# Altium schematic symbol library B-NT_Z.SchLib: 16 symbols
Pins are listed as number, name and electrical type; pins without a type are passive.

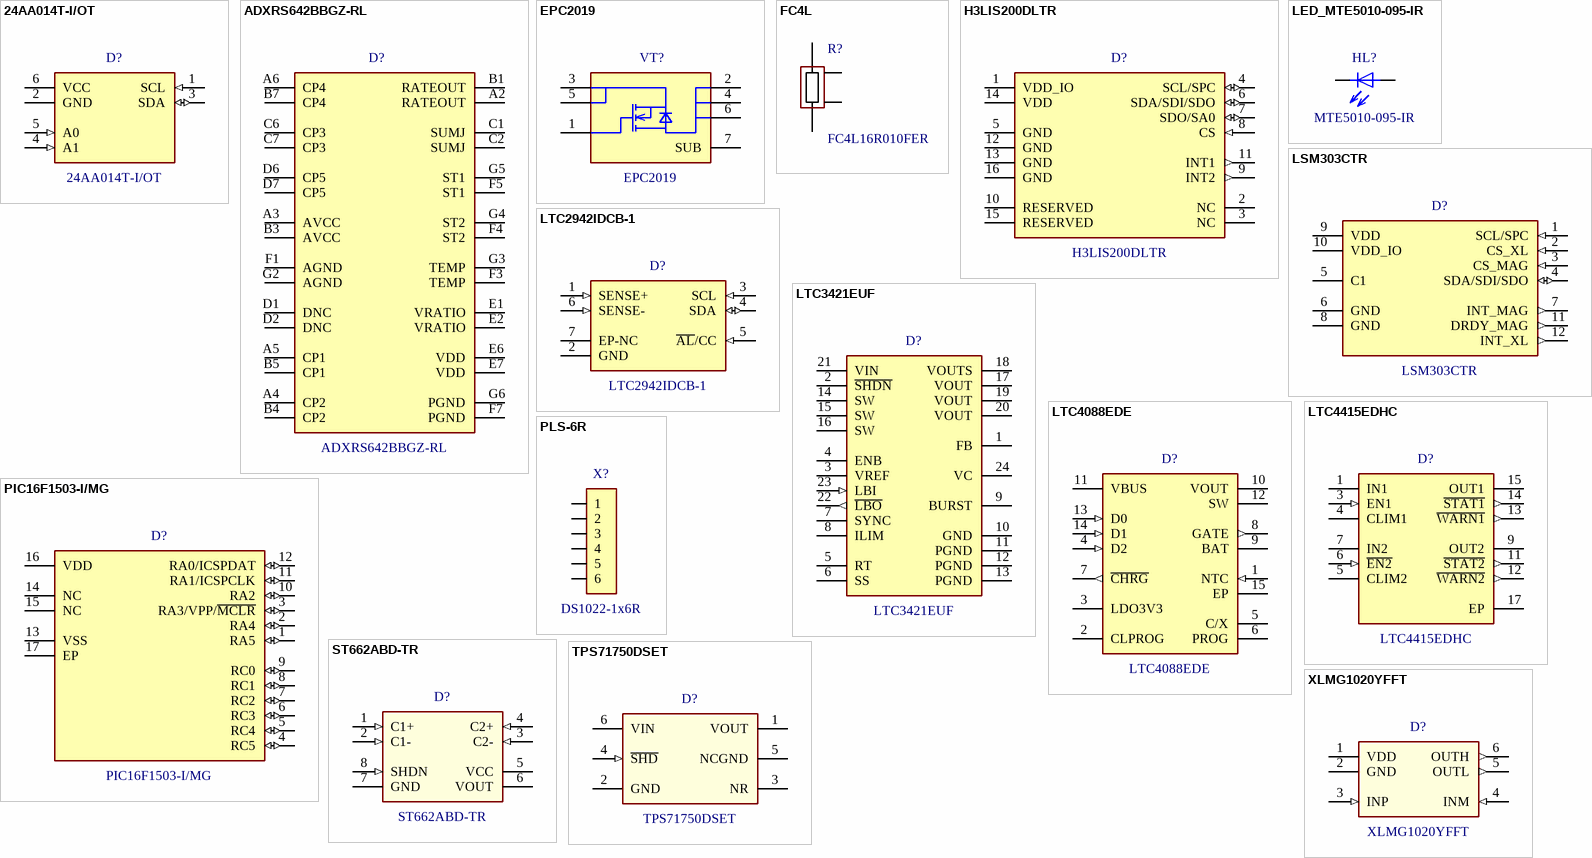
[diagram p0: symbols 24AA014T-I/OT to XLMG1020YFFT]

## 24AA014T-I/OT
designator D?  value 24AA014T-I/OT
EEPROM Memory IC 1Kb (128 x 8) I²C 400kHz 900ns SOT-23-6; ValueManufacturer: Microchip Technology; PowerVoltage: 1.7V~5.5V; ValueDescription: 24AA014T-I/OT EEPROM 1.7V~5.5V  SOT-23-6; Price: 0.25; Package: SOT-23-6; ValueManufacturerPartNumber: 24AA014T-I/OT; ValueType: EEPROM; Operating Temperature: -40°C~85°C; CheckDate: SC *; ComponentLink1Description: Microchip Datasheet; ComponentLink1URL: http://ww1.microchip.com/downloads/en/DeviceDoc/21809G.pdf
footprint SOT23-6-1.6X2.9-0.95 (SOT, 6-Leads, Body 2,9x1,6mm, Pitch 0,95mm)
pins: 1 SCL (in), 2 GND, 3 SDA (io), 4 A1 (in), 5 A0 (in), 6 VCC

## ADXRS642BBGZ-RL
designator D?  value ADXRS642BBGZ-RL
Gyroscope Z (Yaw) ±250 2kHz Analog Voltage 32-CBGA (7x7); ValueManufacturer: Analog Devices Inc; PowerVoltage: 4.75 V ~ 5.25 V; ValueDescription: ADXRS642BBGZ-RL Гироскоп 4.75 V ~ 5.25 V  32-BFCBGA; ValueType: Gyroscopes; Price: 74.75; ComponentLink1Description: Analog Devices Datasheet; ComponentLink1URL: http://www.analog.com/media/en/technical-documentation/data-sheets/ADXRS642.pdf; Package: 32-BFCBGA; ValueManufacturerPartNumber: ADXRS642BBGZ-RL; Operating Temperature: -40°C~105°C (TA); CheckDate: SC *
footprint BGA32_P8_7X7 (CBGA, 32-Leads, Body 7x7mmx3,8mm, Pitch 0,80mm)
pins: A2 RATEOUT "Rate Signal Output", A3 AVCC (power) "Positive Analog Supply", A4 CP2 "Charge Pump Capacitor, 22 nF (±5%)", A5 CP1 "Charge Pump Capacitor, 22 nF (±5%)", A6 CP4 "Charge Pump Capacitor, 22 nF (±5%)", B1 RATEOUT "Rate Signal Output", B3 AVCC (power) "Positive Analog Supply", B4 CP2 "Charge Pump Capacitor, 22 nF (±5%)", B5 CP1 "Charge Pump Capacitor, 22 nF (±5%)", B7 CP4 "Charge Pump Capacitor, 22 nF (±5%)", C1 SUMJ "Output Amp Summing Junction", C2 SUMJ, C6 CP3 "Charge Pump Capacitor, 22 nF (±5%)", C7 CP3 "Charge Pump Capacitor, 22 nF (±5%)", D1 DNC "Do Not Connect to this Pin", D2 DNC "Do Not Connect to this Pin", D6 CP5 "HV Filter Capacitor, 100nF (±5%)", D7 CP5 "HV Filter Capacitor, 100nF (±5%)", E1 VRATIO (power) "Reference Supply for Ratiometric Output", E2 VRATIO (power) "Reference Supply for Ratiometric Output", E6 VDD (power) "Positive Charge Pump Supply", E7 VDD (power) "Positive Charge Pump Supply", F1 AGND (power) "Analog Supply Return", F3 TEMP "Temperature Voltage Output", F4 ST2 "Self-Test for Sensor 2", F5 ST1 "Self-Test for Sensor 1", F7 PGND (power) "Charge Pump Supply Return", G2 AGND (power) "Analog Supply Return", G3 TEMP "Temperature Voltage Output", G4 ST2 "Self-Test for Sensor 2", G5 ST1 "Self-Test for Sensor 1", G6 PGND (power) "Charge Pump Supply Return"

## EPC2019
designator VT?  value EPC2019
TRANS GAN 200V 8.5A BUMPED DIE; ValueManufacturer: EPC; PowerVoltage: 200В 8.5A; ValueDescription: EPC2019 Транзистор полевой N-канальный 200В 8.5A  Die (2.77x0.95); ValueType: GaNFET Transistor; Price: 4.18; ComponentLink1Description: EPC Datasheet; ComponentLink1URL: http://epc-co.com/epc/Portals/0/epc/documents/datasheets/EPC2019_datasheet.pdf; Package: Die (2.77x0.95); ValueManufacturerPartNumber: EPC2019; Operating Temperature: -40°C~150°C; CheckDate: SC *
footprint DIE-EPC2019 (Die, 6-Leads, Body 2,77x0,95mmx0,82mm)
pins: 1 G "Gate", 2 S "Drain", 3 D "Source", 4 S "Drain", 5 D "Drain", 6 S "Drain", 7 SUB "Drain"

## FC4L
designator R?, comment FC4L16R010FER
SMD - Токовый датчик
footprint FC4L16 (SMD 0604 width)
pins: 1, 2, 3, 4

## H3LIS200DLTR
designator D?  value H3LIS200DLTR
ACCEL 100-200G I2C/SPI 16LGA; ValueManufacturer: STMicroelectronics; PowerVoltage: 2.16V~3.6V; ValueDescription: H3LIS200DLTR Акселерометр 2.16V~3.6V  16-VFLGA; ValueType: Accelerometer; Price: 6.88; Package: 16-VFLGA; ValueManufacturerPartNumber: H3LIS200DLTR; Operating Temperature: -40°C~85°C; CheckDate: SC *; ComponentLink1Description: STMicroelecrtonics Datasheet; ComponentLink1URL: https://www.st.com/content/ccc/resource/technical/document/datasheet/6c/e1/2a/9d/29/58/4e/25/DM00162194.pdf/files/DM00162194.pdf/jcr:content/translations/en.DM00162194.pdf
footprint VFLGA-16-3x3-0.5 (PQFN, 16-Leads, Body 3,00x3,00mm, Pitch 0,50mm, IPC Medium Density)
pins: 1 VDD_IO, 2 NC, 3 NC, 4 SCL/SPC (io), 5 GND, 6 SDA/SDI/SDO (io), 7 SDO/SA0 (io), 8 CS (in), 9 INT2 (out), 10 RESERVED, 11 INT1 (out), 12 GND, 13 GND, 14 VDD, 15 RESERVED, 16 GND

## LED_MTE5010-095-IR
designator HL?  value MTE5010-095-IR
SWIR EMITTER 1050NM TO-46 FLAT; ValueManufacturer: Marktech Optoelectronics; TechSpec: Инфракрасный; ValueDescription: MTE5010-095-IR Свтетодиод TO-46-2 Lens Top Metal Can    Инфракрасный; ValueType: TH SWIR Emitter; Price: 45.01; ComponentLink1Description: Marktech Optoelectronics Datasheet; ComponentLink1URL: http://www.marktechopto.com/pdf/products/datasheet/MTE5010-095-IR.pdf; Package: TO-46-2 Lens Top Metal Can; ValueManufacturerPartNumber: MTE5010-095-IR; Operating Temperature: -20°C~85°C; CheckDate: SC *
footprint MTE5010-095-IR
pins: 1 Cathode, 2 Anode
1 alternate drawing of the same symbol

## LSM303CTR
designator D?
IMU ACCEL/MAG I2C/SPI 12LGA; ValueManufacturer: STMicroelectronics; PowerVoltage: 1.9 V ~ 3.6 V; ValueDescription: LSM303CTR IMU 1.9 V ~ 3.6 V  12-LGA (2x2); CheckDate: SC *; Operating Temperature: -40°C~85°C; Package: 12-LGA (2x2); Price: 2.74; ValueManufacturerPartNumber: LSM303CTR; ValueType: IMU; ComponentLink1Description: STMicroelectronics Datasheet; ComponentLink1URL: https://www.st.com/content/ccc/resource/technical/document/datasheet/59/aa/fb/3b/85/9e/4e/0a/DM00089896.pdf/files/DM00089896.pdf/jcr:content/translations/en.DM00089896.pdf; Value: LSM303CTR
footprint LGA-12-2x2x1-0.5 (LGA, 12-Leads, Body 2,00x2,00mm, Pitch 0,50mm, IPC Medium Density)
pins: 1 SCL/SPC (in), 2 CS_XL (in), 3 CS_MAG (in), 4 SDA/SDI/SDO (io), 5 C1, 6 GND, 7 INT_MAG (out), 8 GND, 9 VDD, 10 VDD_IO, 11 DRDY_MAG (out), 12 INT_XL (out)

## LTC2942IDCB-1
designator D?
Battery Battery Monitor IC Lithium Ion 6-DFN (2x3); ValueManufacturer: Linear Technology/Analog Devices; ValueManufacturerPartNumber: LTC2942IDCB-1#TRMPBF; PowerVoltage: 2.7 V ~ 5.5 V; ValueDescription: LTC2942IDCB-1 Монитор батареи 2.7 V ~ 5.5 V  6-DFN (2x3); CheckDate: SC *; Operating Temperature: -40°C~85°C; Package: 6-DFN (2x3); Price: 5.54; ValueType: Battery Monitor; ComponentLink1Description: Linear Technologies/Analog Devices Datasheet; ComponentLink1URL: http://www.analog.com/media/en/technical-documentation/data-sheets/29421f.pdf; Value: LTC2942IDCB-1
footprint DFN-6-2X3-0.5-EP (6-Lead Plastic DFN EP (2 mm x 3mm))
pins: 1 SENSE+ (in), 2 GND, 3 SCL (in), 4 SDA (io), 5 ~{AL}/CC (in), 6 SENSE- (in), 7 EP-NC

## LTC3421EUF
designator D?  value LTC3421EUF
IC REG BOOST ADJ 1A 24QFN; ValueManufacturer: Linear Technology/Analog Devices; ValueManufacturerPartNumber: LTC3421EUF#PBF; PowerVoltage: 0.5 V ~ 4.5 V; ValueDescription: LTC3421EUF DC-DC преобразователь 0.5 V ~ 4.5 V  24-QFN-EP (4x4); ValueType: DC DC Switching Regulator; Price: 7.18; ComponentLink1Description: Linear Technologies/Analog Devices Datasheet; ComponentLink1URL: http://www.analog.com/media/en/technical-documentation/data-sheets/LTC3421.pdf; Package: 24-QFN-EP (4x4); Operating Temperature: -40°C~85°C (TA); CheckDate: SC *
footprint QFN-24-EP-400X400X80 (PQFN, 24-Leads, Body 4,00x4,00mm, Pitch 0,50mm, Thermal Pad 2,45x2,45mm, IPC Medium Density)
pins: 1 FB, 2 ~{SHDN}, 3 VREF, 4 ENB, 5 RT, 6 SS, 7 SYNC, 8 ILIM, 9 BURST, 10 GND, 11 PGND, 12 PGND, 13 PGND, 14 SW, 15 SW, 16 SW, 17 VOUT, 18 VOUTS, 19 VOUT, 20 VOUT, 21 VIN, 22 ~{LBO} (out), 23 LBI (in), 24 VC

## LTC4088EDE
designator D?
Charger IC Lithium Ion/Polymer 14-DFN (4x3); ValueManufacturer: Linear Technology/Analog Devices; PowerVoltage: 2.7 V ~ 5.5 V; ValueDescription: LTC4088EDE Контроллер заряда 2.7 V ~ 5.5 V  14-DFN (4x3); CheckDate: SC *; Operating Temperature: -40°C~85°C; Package: 14-DFN (4x3); Price: 5.2; ValueManufacturerPartNumber: LTC4088EDE; ValueType: Charger; ComponentLink1Description: Linear Technologies/Analog Devices Datasheet; ComponentLink1URL: http://www.analog.com/media/en/technical-documentation/data-sheets/4088fb.pdf; Value: LTC4088EDE
footprint DFN-14-4X3-0.5-EP (14-Lead Plastic DFN EP (4mm ? 3mm))
pins: 1 NTC (in), 2 CLPROG, 3 LDO3V3, 4 D2 (in), 5 C/X, 6 PROG, 7 ~{CHRG} (out), 8 GATE (out), 9 BAT, 10 VOUT, 11 VBUS, 12 SW, 13 D0 (in), 14 D1 (in), 15 EP

## LTC4415EDHC
designator D?
OR Controller Source Selector Switch P-Channel 2:2 16-DFN (5x3); ValueManufacturer: Linear Technology/Analog Devices; ValueManufacturerPartNumber: LTC4415EDHC#TRPBF; PowerVoltage: 1.7 V ~ 5.5 V; ValueDescription: LTC4415EDHC OR контроллер 1.7 V ~ 5.5 V  16-DFN (5x3); ValueType: Power Management; CheckDate: SC *; Operating Temperature: -40°C~125°C; Package: 16-DFN (5x3); Price: 7.32; ComponentLink1Description: Linear Technologies/Analog Devices Datasheet; ComponentLink1URL: http://www.analog.com/media/en/technical-documentation/data-sheets/4415fa.pdf; Value: LTC4415EDHC
footprint DFN-16-5X3-0.5-EP-CONN (16-Lead Plastic DFN EP (5mm x 3mm))
pins: 1 IN1, 3 EN1 (in), 4 CLIM1, 5 CLIM2, 6 ~{EN2} (in), 7 IN2, 9 OUT2, 11 ~{STAT2} (out), 12 ~{WARN2} (out), 13 ~{WARN1} (out), 14 ~{STAT1} (out), 15 OUT1, 17 EP

## PIC16F1503-I/MG
designator D?  value PIC16F1503-I/MG
PIC PIC® 16F Microcontroller IC 8-Bit 20MHz 3.5KB (2K x 14) FLASH 16-QFN-EP (3x3); ValueManufacturer: Microchip Technology; PowerVoltage: 2.3V~5.5V; ValueDescription: PIC16F1503-I/MG Микроконтроллер 2.3V~5.5V  16-VFQFN EP; Price: 0.88; Package: 16-VFQFN EP; ValueManufacturerPartNumber: PIC16F1503-I/MG; ValueType: Microcontroller; Operating Temperature: -40°C~85°C; CheckDate: SC *; ComponentLink1Description: Microchip Datasheet; ComponentLink1URL: http://ww1.microchip.com/downloads/en/DeviceDoc/40001607D.pdf
footprint QFN-16-EP-300x300x90 (PQFN, 16-Leads, Body 3,00x3,00mm, Pitch 0,50mm, Thermal Pad 1,25x1,25mm, IPC Medium Density)
pins: 1 RA5 (io), 2 RA4 (io), 3 RA3/VPP/~{MCLR} (io), 4 RC5 (io), 5 RC4 (io), 6 RC3 (io), 7 RC2 (io), 8 RC1 (io), 9 RC0 (io), 10 RA2 (io), 11 RA1/ICSPCLK (io), 12 RA0/ICSPDAT (io), 13 VSS, 14 NC, 15 NC, 16 VDD, 17 EP

## PLS-6R
designator X?  value DS1022-1x6R
CONN HEADER 6 POS 2.54 RIGHT ANGLE; ValueManufacturer: Connfly; PowerVoltage: 250V; TechSpec: 3A; ValueDescription: DS1022-1x6R Вилка Connfly  2.54x15.24mm  3A; ValueType: Connector; Price: 0.19; ComponentLink1Description: Connfly Datasheet; ComponentLink1URL: https://static.chipdip.ru/lib/468/DOC002468246.pdf; Package: 2.54x15.24mm; ValueManufacturerPartNumber: DS1022-1x6R; Operating Temperature: -40°C~125°C; CheckDate: SC
footprint PLS-6R
pins: 1, 2, 3, 4, 5, 6

## ST662ABD-TR
designator D?  value ST662ABD-TR
IC REG SWTCHD CAP 12V 30MA 8SOIC; ValueManufacturer: STMicroelectronics; TechSpec: VINmax=5.5V; ValueDescription: ST662ABD-TR DC-DC преобразователь 12V 30mA  SOP-8 (3.9x5)  VINmax=5.5V; ValueType: Power Management; Price: 1.16; ComponentLink1Description: STMicroelectronics Datasheet; ComponentLink1URL: http://www.st.com/content/ccc/resource/technical/document/datasheet/b3/9e/b7/9b/6d/f9/45/1e/CD00001164.pdf/files/CD00001164.pdf/jcr:content/translations/en.CD00001164.pdf; Package: SOP-8 (3.9x5); PowerVoltage: 12V 30mA; ValueManufacturerPartNumber: ST662ABD-TR; Operating Temperature: -40°C~85°C; CheckDate: SC
footprint SOP-8-3.9X5-1.27 (SOIC, 8-Leads, Body 5x4mm, Pitch 1.27mm, IPC Medium Density)
pins: 1 C1+ (in), 2 C1- (in), 3 C2- (in), 4 C2+ (in), 5 VCC, 6 VOUT, 7 GND, 8 SHDN (in)

## TPS71750DSET
designator D?  value TPS71750DSET
LDO 5V 150mA VINmax=6.5V  6-WSON (1.5x1.5); ValueManufacturer: Texas Instruments; ValueDescription: TPS71750DSET Линейный преобразователь 5V 150mA  6-WSON (1.5x1.5)  VINmax=6.5V; ValueType: Power Management; Price: 1.24; ComponentLink1Description: Texas Instruments Datasheet; ComponentLink1URL: http://www.ti.com/lit/ds/symlink/tps717.pdf; Package: 6-WSON (1.5x1.5); PowerVoltage: 5V 150mA; TechSpec: VINmax=6.5V; ValueManufacturerPartNumber: TPS71750DSET; Operating Temperature: -40°C~125°C; CheckDate: SC
footprint SON127P600-8N
pins: 1 VOUT, 2 GND, 3 NR, 4 ~{SHD} (in), 5 NCGND, 6 VIN

## XLMG1020YFFT
designator D?  value XLMG1020YFFT
Driver 5V 7A VINmax=5.75V  6-DSBGA (0.8x1.2); ValueManufacturer: Texas Instruments; PowerVoltage: 5V 40mA; ValueDescription: XLMG1020YFFT Драйвер GaN5V 40mA  6-DSBGA (0.8x1.2)  VINmax=5.75V; ValueType: GaN Driver; Price: 3.8; ComponentLink1Description: Texas Instruments Datasheet; ComponentLink1URL: http://www.ti.com/lit/ds/symlink/lmg1020.pdf; Package: 6-DSBGA (0.8x1.2); TechSpec: VINmax=5.75V; ValueManufacturerPartNumber: XLMG1020YFFT; Operating Temperature: -40°C~125°C; CheckDate: SC
footprint DSBGA-6 (BGA, 6-Leads, Body 0,86x1,25mmx0,63mm, Pitch 0,40mm)
pins: 1 VDD, 2 GND, 3 INP (in), 4 INM (in), 5 OUTL (out), 6 OUTH (out)